# EAGLE library part STD020M20X1 (library con-pinheader-standard)
male standard header 2mm
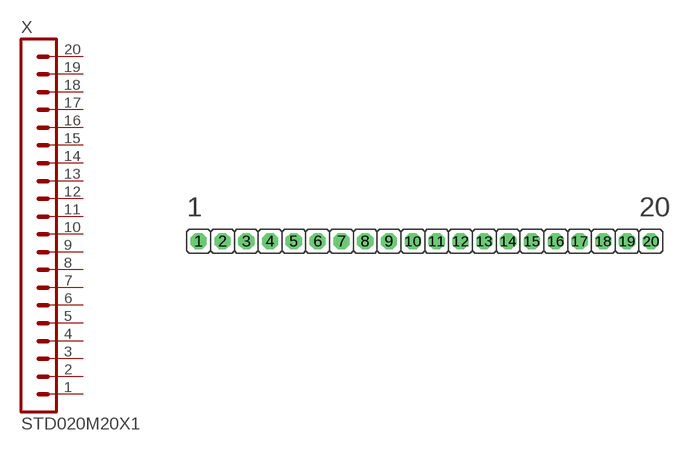
[diagram p49: symbol with the pads of STD020M20X1-2.00; footprint STD020M20X1-2.00]

Designator prefix X

## STD020M20X1-2.00MM  [STD020M20X1-2.00]
1  1  pas
2  2  pas
3  3  pas
4  4  pas
5  5  pas
6  6  pas
7  7  pas
8  8  pas
9  9  pas
10  10  pas
11  11  pas
12  12  pas
13  13  pas
14  14  pas
15  15  pas
16  16  pas
17  17  pas
18  18  pas
19  19  pas
20  20  pas

## Footprint STD020M20X1-2.00 (pad centres in mm)
male standard header 2mm
drill 0.85 octagon: 1 -19,0; 2 -17,0; 3 -15,0; 4 -13,0; 5 -11,0; 6 -9,0; 7 -7,0; 8 -5,0; 9 -3,0; 10 -1,0; 11 1,0; 12 3,0; 13 5,0; 14 7,0; 15 9,0; 16 11,0; 17 13,0; 18 15,0; 19 17,0; 20 19,0